# EAGLE library part T45V-10X-UP (library BMS Lbr)
Suspected to be the ATtiny45V microcontroller based off of pinout and connection to programming pins
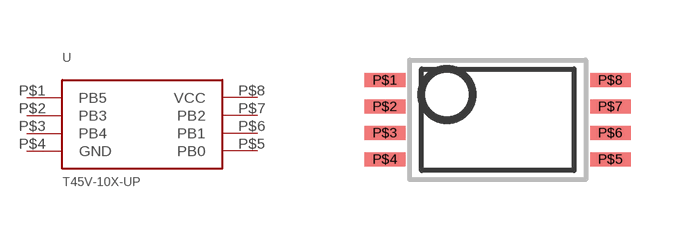
[diagram p0: symbol with the pads of TSSOP-8(ATMEL); footprint TSSOP-8(ATMEL)]

Designator prefix -

## T45V-10X-UP  [TSSOP-8(ATMEL)]
P$1  PB5
P$2  PB3
P$3  PB4
P$4  GND
P$5  PB0
P$6  PB1
P$7  PB2
P$8  VCC

## Footprint TSSOP-8(ATMEL) (pad centres in mm)
smd 1.016 x 0.356: P$1 -2.82,0.992; P$2 -2.82,0.331; P$3 -2.82,-0.331; P$4 -2.82,-0.992; P$5 2.82,-0.992; P$6 2.82,-0.331; P$7 2.82,0.331; P$8 2.82,0.992